# EAGLE library part TC7W08FU (library TC7W08FU)
One-Gate Logic(L-MOS), 2-Input/AND, SOT-505(SM8) Source: Datasheet <https://toshiba.semicon-storage.com/info/docget.jsp?did=20199&prodName=TC7W08FU>
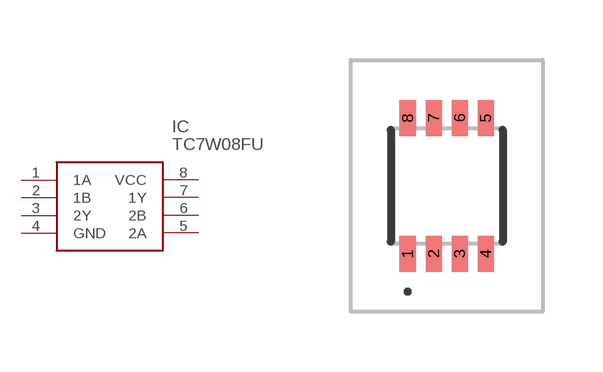
[diagram p0: symbol with the pads of TC7W53FUF; footprint TC7W53FUF]

Designator prefix IC

## TC7W08FU (Description: One-Gate Logic(L-MOS), 2-Input/AND, SOT-505(SM8); Height: 1.3mm; Manufacturer_Name: Toshiba; Manufacturer_Part_Number: TC7W08FU; Mouser_Part_Number: 757-TC7W08FU; Mouser_Price-Stock: https://www.mouser.co.uk/ProductDetail/Toshiba/TC7W08FU?qs=6ZVwTuetbD6UzVSf2Rcgiw%3D%3D)  [TC7W53FUF]
1  1A
2  1B
3  2Y
4  GND
5  2A
6  2B
7  1Y
8  VCC

## Footprint TC7W53FUF (pad centres in mm)
SSOP8-P-0.65
smd 0.4 x 0.9: 1 -0.975,-1.7; 2 -0.325,-1.7; 3 0.325,-1.7; 4 0.975,-1.7; 5 0.975,1.7; 6 0.325,1.7; 7 -0.325,1.7; 8 -0.975,1.7